# EAGLE library part 74HC393 (library Bits_library_eagle 9x)
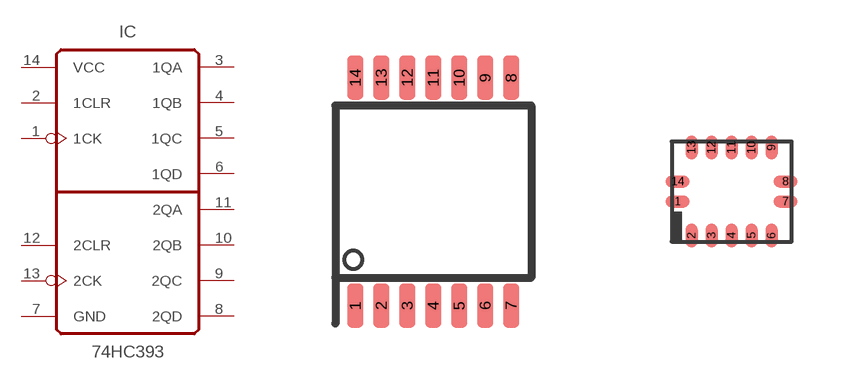
[diagram p11: symbol with the pads of TSSOP14; footprints TSSOP14, DHVQFN14]

Designator prefix IC

## 74HC393  [TSSOP14]
1  1CK
2  1CLR
3  1QA
4  1QB
5  1QC
6  1QD
7  GND
8  2QD
9  2QC
10  2QB
11  2QA
12  2CLR
13  2CK
14  VCC

## 74HC393QFN  [DHVQFN14]
Pads as for TSSOP14

## Footprint TSSOP14 (pad centres in mm)
smd 0.4 x 1.1: 1 -1.95,-2.85; 2 -1.3,-2.85; 3 -0.65,-2.85; 4 0,-2.85; 5 0.65,-2.85; 6 1.3,-2.85; 7 1.95,-2.85; 8 1.95,2.85; 9 1.3,2.85; 10 0.65,2.85; 11 0,2.85; 12 -0.65,2.85; 13 -1.3,2.85; 14 -1.95,2.85

## Footprint DHVQFN14 (pad centres in mm)
smd 0.6 x 0.3: 1 -1.35,-0.25; 7 1.35,-0.25; 8 1.35,0.25; 14 -1.35,0.25
smd 0.3 x 0.6: 2 -1,-1.1; 3 -0.5,-1.1; 4 0,-1.1; 5 0.5,-1.1; 6 1,-1.1; 9 1,1.1; 10 0.5,1.1; 11 0,1.1; 12 -0.5,1.1; 13 -1,1.1